# EAGLE library part MAX2027 (library Lasser)
Maxim MAX2027 IF Digitally Controlled Variable-Gain Amplifier 50 - 400 MHz Attenuator - 15dB Gain Amplifier Combination -8 to 15 dB Gain NF 4.7dB at full Gain 1dB Resolution OP1dB20.6dBm
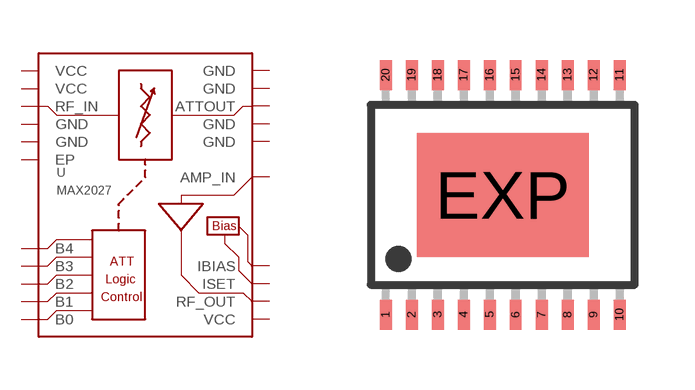
[diagram p16: symbol with the pads of TSSOP20PAD; footprint TSSOP20PAD]

Designator prefix -

## MAX2027  [TSSOP20PAD]
1  VCC
2  VCC
3  RF_IN
4  GND
5  GND
6  B4
7  B3
8  B2
9  B1
10  B0
11  VCC
12  RF_OUT
13  ISET
14  IBIAS
15  AMP_IN
16  GND
17  GND
18  ATTOUT
19  GND
20  GND
EXP  EP

## Footprint TSSOP20PAD (pad centres in mm)
smd 0.3 x 0.75: 1 -2.925,-3; 2 -2.275,-3; 3 -1.625,-3; 4 -0.975,-3; 5 -0.325,-3; 6 0.325,-3; 7 0.975,-3; 8 1.625,-3; 9 2.275,-3; 10 2.925,-3; 11 2.925,3; 12 2.275,3; 13 1.625,3; 14 0.975,3; 15 0.325,3; 16 -0.325,3; 17 -0.975,3; 18 -1.625,3; 19 -2.275,3; 20 -2.925,3
smd 4.3 x 3.1: EXP 0,0